# EAGLE library part AD8629ARZ (library 0_analog-devices)
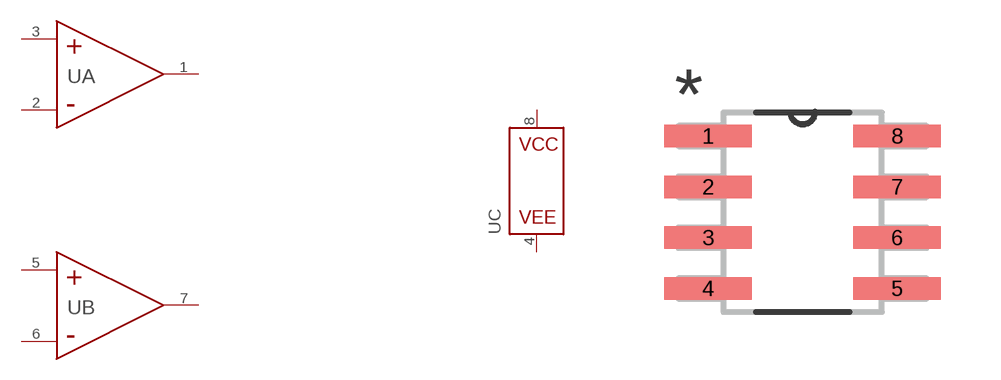
[diagram p2: symbol with the pads of R_8; footprint R_8]

Designator prefix U; gates A=OP-AMP B=OP-AMP C=OP-AMP-PWR

## AD8629ARZ  [R_8]
1  A:OUT  pas
2  A:IN-  pas
3  A:IN+  pas
4  C:VEE  sup
5  B:IN+  pas
6  B:IN-  pas
7  B:OUT  pas
8  C:VCC  sup

## Footprint R_8 (pad centres in mm)
smd 2.184 x 0.559: 1 -2.362,1.905; 2 -2.362,0.635; 3 -2.362,-0.635; 4 -2.362,-1.905; 5 2.362,-1.905; 6 2.362,-0.635; 7 2.362,0.635; 8 2.362,1.905